# EAGLE library part K4E640411D (library _mtvl.memory)
K4E660411D K4E640411D 16M x 4BIT CMOS Dynamic RAM with extended data out
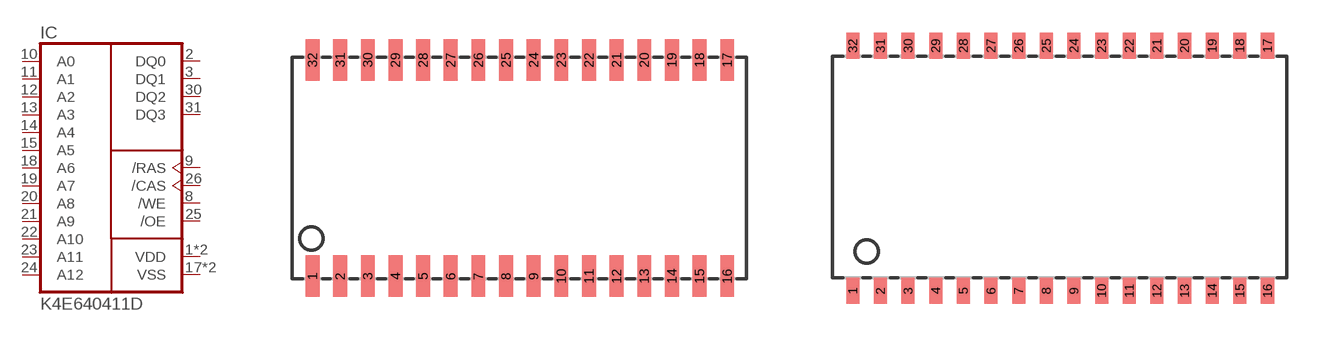
[diagram p1: symbol with the pads of SOJ32/4; footprints SOJ32/4, TSOPII-32]

Designator prefix IC

## K4E640411D-JC  [SOJ32/4]
1  VDD  pwr
2  DQ0
3  DQ1
8  /WE  in
9  /RAS  in
10  A0  in
11  A1  in
12  A2  in
13  A3  in
14  A4  in
15  A5  in
16  VDD  pwr
17  VSS  pwr
18  A6  in
19  A7  in
20  A8  in
21  A9  in
22  A10  in
23  A11  in
24  A12  nc
25  /OE  in
26  /CAS  in
30  DQ2
31  DQ3
32  VSS  pwr

## K4E640411D-TC  [TSOPII-32]
1  VDD  pwr
2  DQ0
3  DQ1
8  /WE  in
9  /RAS  in
10  A0  in
11  A1  in
12  A2  in
13  A3  in
14  A4  in
15  A5  in
16  VSS  pwr
17  VSS  pwr
18  A6  in
19  A7  in
20  A8  in
21  A9  in
22  A10  in
23  A11  in
24  A12  nc
25  /OE  in
26  /CAS  in
30  DQ2
31  DQ3
32  VDD  pwr

## K4E640411D  [TSOPII-SOJ-32]
Pads as for TSOPII-32

## Footprint SOJ32/4 (pad centres in mm)
Small Outline J-Bend
smd 0.635 x 1.905: 1 -9.525,-4.966; 2 -8.255,-4.966; 3 -6.985,-4.966; 4 -5.715,-4.966; 5 -4.445,-4.966; 6 -3.175,-4.966; 7 -1.905,-4.966; 8 -0.635,-4.966; 9 0.635,-4.966; 10 1.905,-4.966; 11 3.175,-4.966; 12 4.445,-4.966; 13 5.715,-4.966; 14 6.985,-4.966; 15 8.255,-4.966; 16 9.525,-4.966; 17 9.525,4.966; 18 8.255,4.966; 19 6.985,4.966; 20 5.715,4.966; 21 4.445,4.966; 22 3.175,4.966; 23 1.905,4.966; 24 0.635,4.966; 25 -0.635,4.966; 26 -1.905,4.966; 27 -3.175,4.966; 28 -4.445,4.966; 29 -5.715,4.966; 30 -6.985,4.966; 31 -8.255,4.966; 32 -9.525,4.966

## Footprint TSOPII-32 (pad centres in mm)
32-pin TSOP II (51-85095) Source: Cypress CYP05780611.pdf
smd 0.6 x 1.2: 1 -9.525,-5.627; 2 -8.255,-5.627; 3 -6.985,-5.627; 4 -5.715,-5.627; 5 -4.445,-5.627; 6 -3.175,-5.627; 7 -1.905,-5.627; 8 -0.635,-5.627; 9 0.635,-5.627; 10 1.905,-5.627; 11 3.175,-5.627; 12 4.445,-5.627; 13 5.715,-5.627; 14 6.985,-5.627; 15 8.255,-5.627; 16 9.525,-5.627; 17 9.525,5.629; 18 8.255,5.629; 19 6.985,5.629; 20 5.715,5.629; 21 4.445,5.629; 22 3.175,5.629; 23 1.905,5.629; 24 0.635,5.629; 25 -0.635,5.629; 26 -1.905,5.629; 27 -3.175,5.629; 28 -4.445,5.629; 29 -5.715,5.629; 30 -6.985,5.629; 31 -8.255,5.629; 32 -9.525,5.629

## Footprint TSOPII-SOJ-32 (pad centres in mm)
TSOP (II) + SOJ 32 pin hybrid footprint
smd 0.635 x 2.286: 1 -9.525,-5.08; 2 -8.255,-5.08; 3 -6.985,-5.08; 4 -5.715,-5.08; 5 -4.445,-5.08; 6 -3.175,-5.08; 7 -1.905,-5.08; 8 -0.635,-5.08; 9 0.635,-5.08; 10 1.905,-5.08; 11 3.175,-5.08; 12 4.445,-5.08; 13 5.715,-5.08; 14 6.985,-5.08; 15 8.255,-5.08; 16 9.525,-5.08; 17 9.525,5.08; 18 8.255,5.08; 19 6.985,5.08; 20 5.715,5.08; 21 4.445,5.08; 22 3.175,5.08; 23 1.905,5.08; 24 0.635,5.08; 25 -0.635,5.08; 26 -1.905,5.08; 27 -3.175,5.08; 28 -4.445,5.08; 29 -5.715,5.08; 30 -6.985,5.08; 31 -8.255,5.08; 32 -9.525,5.08